# EAGLE library part KW-SPH0645 (library FaBo-Mems)
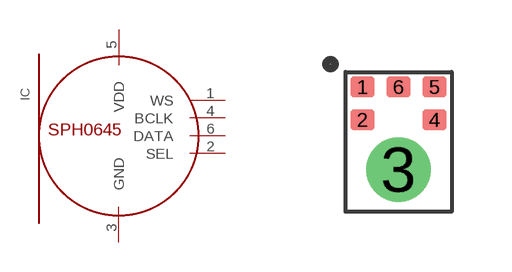
[diagram p35: symbol with the pads of KNOWLES-SPH0645; footprint KNOWLES-SPH0645]

Designator prefix IC

## KW-SPH0645  [KNOWLES-SPH0645]
1  WS
2  SEL
3  GND
4  BCLK
5  VDD
6  DATA

## Footprint KNOWLES-SPH0645 (pad centres in mm)
smd 0.6 x 0.522: 1 -0.9,2.074; 2 -0.9,1.252; 4 0.9,1.252; 5 0.9,2.074; 6 0,2.074
drill 1.024 pad 1.624: 3 0,0